# Altium footprint library VariuosCPOWER.PcbLib: 13 footprints
Each footprint in its own frame and in the unit in brackets; x right, y up, seen from the top. Pads: shape width x height; smd on the part's side, far side on the other; paste and mask are expansions set on the pad; w line width, h text height; cw(c..) or ccw(c..) is an arc to the next point about the centre after c.
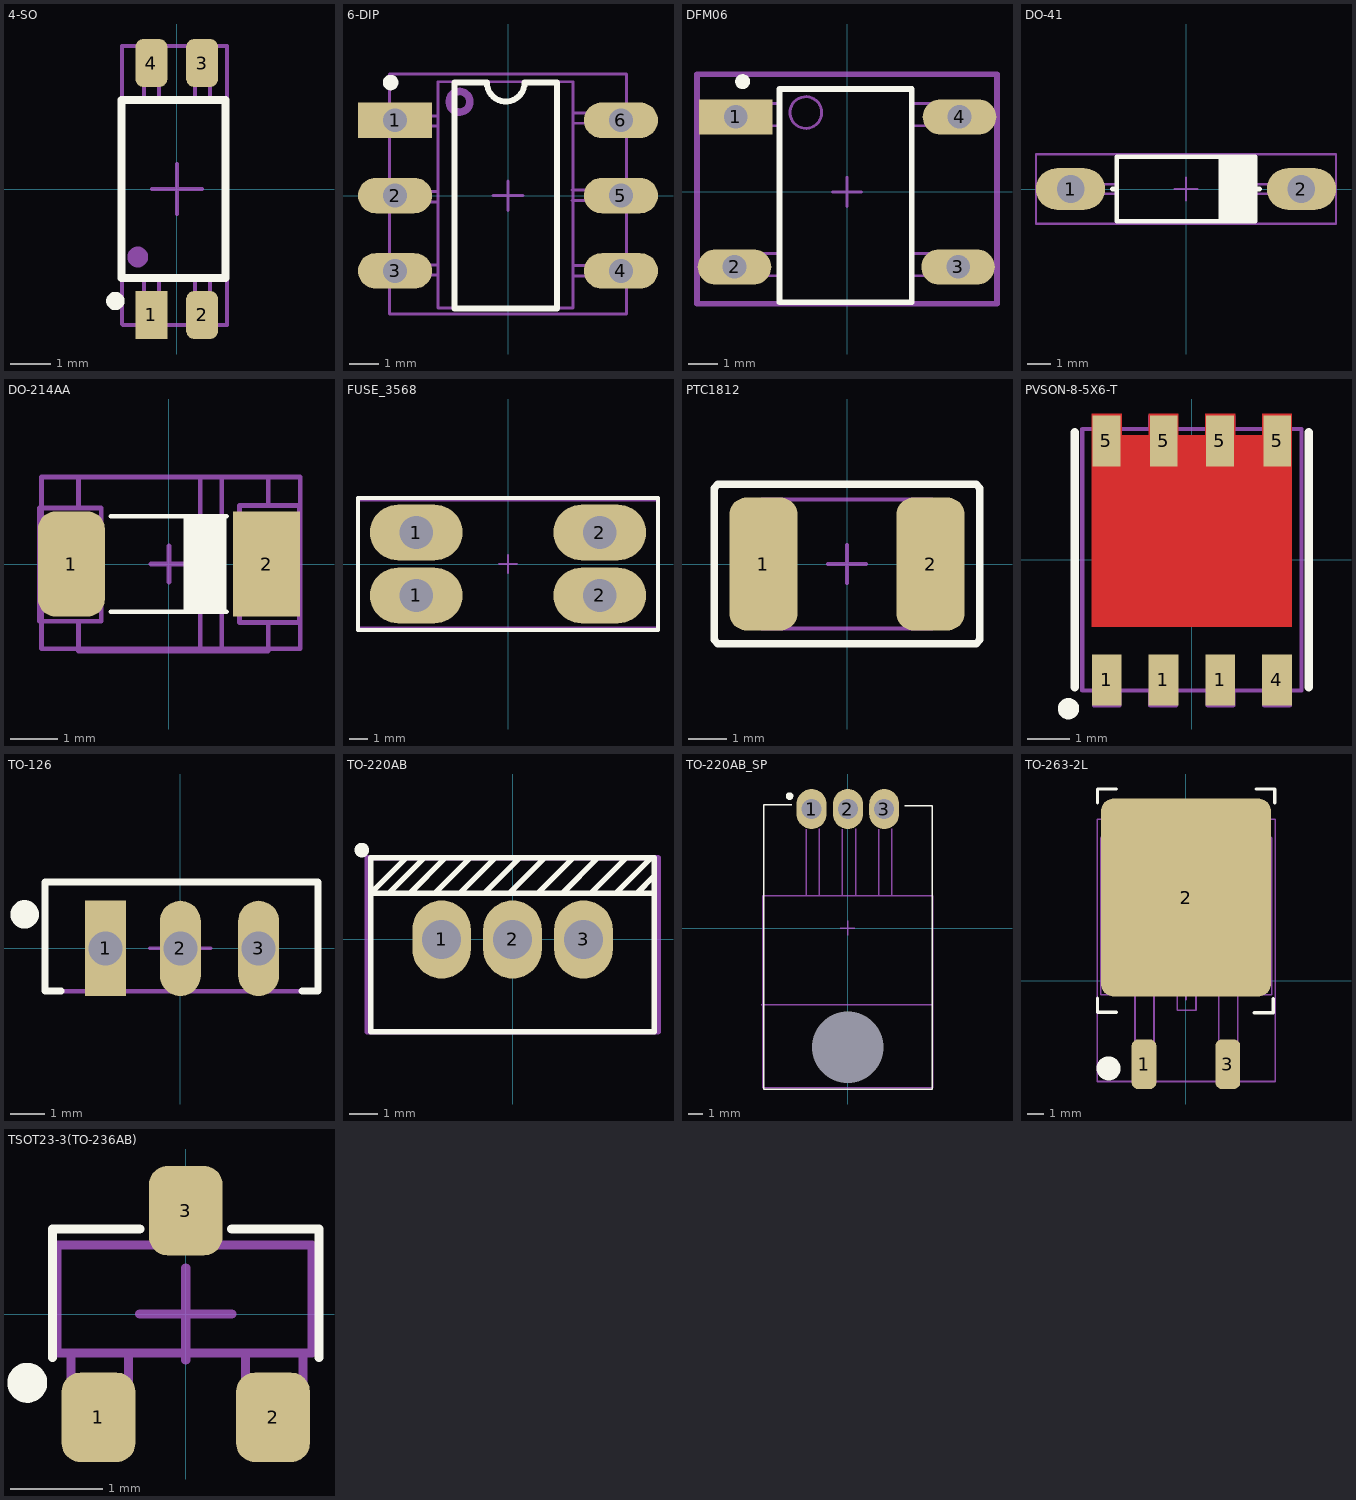
[diagram p0: the footprints below, top view; thin cyan lines are the x and y axes]

## 4-SO [mm] "0.179\", 4.55mm Width"
pads (4):
  rect 0.8x1.2 smd: 1(-0.635,-3.15)
  rrect50% 0.8x1.2 smd: 2(0.635,-3.15) 3(0.635,3.15) 4(-0.635,3.15)
Top Overlay:
  circle w0.254: c-1.535,-2.8 r0.103
  lines w0.2: -1.385,-2.225 -1.385,2.225 1.215,2.225 1.215,-2.225 -1.385,-2.225
TopAssy:
  circle w0.254: c-0.975,-1.7 r0.135
  lines w0.1: -0.825,-2.225 -0.825,-3.35 -0.45,-3.35 -0.45,-2.225 ; -0.825,2.225 -0.825,3.35 -0.45,3.35 -0.45,2.225 ; 0.45,-2.225 0.45,-3.35 0.825,-3.35 0.825,-2.225 ; 0.45,2.225 0.45,3.35 0.825,3.35 0.825,2.225 ; -1.375,-2.225 -1.375,2.225 1.25,2.225 1.25,-2.225 -1.375,-2.225
Inside:
  lines w0.1: -0.625,0 0,0 ; 0,-0.625 0,0 ; 0,0.625 0,0 ; 0.625,0 0,0 ; -1.375,-3.375 -1.375,3.575 1.25,3.575 1.25,-2.95 1.25,-3.4 -1.35,-3.4 -1.375,-3.375
3D body "User Library-ACPL-217-56DE.step": height 2.01, standoff -0.12, extent -1.36,-3.4 1.24,3.6

## 6-DIP [mm]
pads (6):
  rect 2.5x1.2 hole 0.8: 1(-3.81,2.54)
  oval 2.5x1.2 hole 0.8: 2(-3.81,0) 3(-3.81,-2.54) 4(3.81,-2.54) 5(3.81,0) 6(3.81,2.54)
Top Overlay:
  circle w0.254: c-3.96,3.815 r0.135
  lines w0.2: -1.8,-3.81 -1.8,3.81 -0.71,3.81 ccw(c-0.075,3.81) 0.56,3.81 1.65,3.81 1.65,-3.81 -1.8,-3.81
TopAssy:
  circle w0.254: c-1.635,3.165 r0.348
  lines w0.1: -3.56,-2.36 -3.56,-2.66 -3.56,-2.685 -2.36,-2.685 ; -3.56,0.115 -3.56,-0.185 -3.56,-0.21 -2.36,-0.21 ; -3.56,2.665 -3.56,2.365 -3.56,2.34 -2.36,2.34 ; -3.535,-2.335 -2.36,-2.335 ; -3.535,0.14 -2.36,0.14 ; -3.535,2.69 -2.36,2.69 ; 2.165,-0.16 3.365,-0.16 3.365,-0.135 3.365,0.165 ; 2.165,0.19 3.34,0.19 ; 2.215,-2.71 3.415,-2.71 3.415,-2.685 3.415,-2.385 ; 2.215,-2.36 3.39,-2.36 ; 2.215,2.44 3.415,2.44 3.415,2.465 3.415,2.765 ; 2.215,2.79 3.39,2.79 ; -2.36,-3.785 0.09,-3.785 2.19,-3.785 2.19,3.84 2.14,3.84 -0.085,3.84 -2.31,3.84 -2.36,3.84 -2.36,-3.785
Inside:
  lines w0.1: -0.5,0 0.5,0 ; 0,-0.5 0,0.5 ; -4,-4 -4,4.1 4,4.1 4,-4 -4,-4
3D body "CircuitWorks-DIP6.step": height 4.81, standoff -2.78, extent -4,-4.04 4,4.04

## DFM06 [mm] "8.51 mmx6.5mmx3.3mm"
height 3.3
pads (4):
  rect 2.5x1.2 hole 0.8: 1(-3.775,2.55)
  oval 2.5x1.2 hole 0.8: 2(-3.825,-2.55) 3(3.775,-2.55) 4(3.825,2.55)
Top Overlay:
  circle w0.254: c-3.55,3.75 r0.125
  lines w0.2: -2.3,-3.75 2.2,-3.75 2.2,3.5 -2.3,3.5 -2.3,-3.75
TopAssy:
  circle w0.1: c4,2.6 r0.4
  circle w0.1: c4.1,-2.5 r0.4
  circle w0.1: c-4,-2.5 r0.4
  circle w0.1: c-4,2.6 r0.4
  circle w0.1: c-1.4,2.7 r0.539
  lines w0.1: -2.3,-2.85 -4.05,-2.85 -4.05,-2.1 -2.3,-2.1 ; -2.3,2.25 -4.05,2.25 -4.05,3 -2.3,3 ; 2.2,2.25 3.95,2.25 3.95,3 2.2,3 ; 2.3,-2.85 4.05,-2.85 4.05,-2.1 2.3,-2.1 ; -2.3,-3.75 2.2,-3.75 2.2,3.5 -2.3,3.5 -2.3,-3.75
Inside:
  lines w0.1: -0.5,0 0.5,0 ; 0,-0.5 0,0.5
  lines w0.2: -5.1,-3.8 5.1,-3.8 5.1,4 -5.1,4 -5.1,-3.8
3D body "User Library-DIP-4 300mil Black.step": height 4, standoff -2.5, extent -3.965,-3.8 4.018,3.9

## DO-41 [mm]
pads (2):
  oval 3x1.8 hole 1.2: 1(-5,0) 2(5,0)
Top Overlay:
  rectangle: 1.4,-1.4 3,1.4
  lines w0.2: -3.2,0 -3,0 ; 3,0 3.2,0 ; -3,-1.4 -3,1.4 3,1.4 3,-1.4 -3,-1.4
TopAssy:
  circle w0.1: c5,0 r0.412
  circle w0.1: c-5,0 r0.412
  lines w0.1: -4.6,-0.2 -3,-0.2 ; -4.6,0.2 -3,0.2 ; 2.3,-1.5 2.3,1.4 ; 2.7,-1.5 2.7,1.4 ; 3,-0.2 4.6,-0.2 ; 3,0.2 4.6,0.2 ; -3,-1.5 3,-1.5 3,1.4 -3,1.4 -3,-1.5
Inside:
  lines w0.1: -0.5,0 0.5,0 ; 0,-0.5 0,0.5 ; -6.5,-1.5 -6.5,1.5 6.5,1.5 6.5,-1.5 -6.5,-1.5
3D body "User Library-DO-41 10mm.step": height 3.36, standoff -2, extent -5.43,-1.362 5.43,1.363

## DO-214AA [mm] "SMB / DO-214AA"
pads (2):
  rrect50% 1.4x2.2 smd: 1(-2.045,0)
  rect 1.4x2.2 smd: 2(2.045,0)
Top Overlay:
  rectangle: 0.305,-1 1.205,1
  lines w0.1: -1.22,-1 1.205,-1 ; -1.22,1 1.205,1
TopAssy:
  lines w0.1: -1.895,-1.2 -1.895,-1.825 2.08,-1.825 2.08,-1.225 ; -1.895,1.2 -1.895,1.825 2.08,1.825 2.08,1.225 ; 0.655,-1.825 0.655,1.825 0.705,1.825 ; 1.105,-1.825 1.105,1.825 1.13,1.825 ; 2.08,1.225 1.48,1.225 1.48,-1.225 2.73,-1.225 2.73,1.225 2.08,1.225 ; -2.72,-1.2 -1.42,-1.2 -1.42,1.175 -1.895,1.175 -2.72,1.175 -2.72,-1.2
Inside:
  lines w0.1: -0.375,0 0,0 ; 0,-0.375 0,0 ; 0,0.375 0,0 ; 0.375,0 0,0 ; -2.675,-1.775 2.75,-1.775 2.75,1.825 -2.675,1.825 -2.675,-1.775
3D body "User Library-DO-214AA SMB.step": height 2.3, standoff 0, extent -2.67,-1.775 2.73,1.825

## FUSE_3568 [mm] "Fuse 3568 (16x6.73x7.37)"
height 7.37
pads (4):
  oval 5x3 hole 1.8: 1(-4.955,-1.7) 1(-4.955,1.7) 2(4.955,-1.7) 2(4.955,1.7)
Top Overlay:
  lines w0.2: -8.1,-3.565 8.1,-3.565 8.1,3.565 -8.1,3.565 -8.1,-3.565
TopAssy:
  lines w0.1: -8.05,-3.425 -8.05,3.425 8.075,3.425 8.075,-3.425 -8.05,-3.425
Inside:
  lines w0.1: -0.5,0 0.5,0 ; 0,-0.5 0,0.5
3D body "3568.STEP": height 7.37, standoff -2.79, extent -8,-3.365 8,3.365

## PTC1812 [mm] "PTC RESTTBLE  1812 (4532 Metric (4.55mm x 3.24mm)"
height 1.1
pads (2):
  rrect50% 1.8x3.5 smd: 1(-2.2,0) 2(2.2,0)
Top Overlay:
  lines w0.2: -3.5,-2 -3.4,-2.1 3.4,-2.1 3.5,-2 3.5,2 3.4,2.1 -3.4,2.1 -3.5,2 -3.5,-2
TopAssy:
  lines w0.1: -1.75,-1.6 -1.75,1.6 ; 1.75,-1.6 1.75,1.6 ; -2.25,-1.7 2.25,-1.7 2.25,1.7 -2.25,1.7 -2.25,-1.7
Inside:
  lines w0.1: -0.5,0 0.5,0 ; 0,-0.5 0,0.5
3D body "polyswitch 1812.STEP": height 1.1, standoff 0, extent -2.34,-1.705 2.39,1.705

## PVSON-8-5X6-T [mm] "TDSON, 8-Leads, Body 6x5mm, Pitch 1.27mm"
height 1
pads (8):
  rect 0.7x1.2 smd: 1(-2,-2.825) 1(-0.667,-2.825) 1(0.667,-2.825) 4(2,-2.825)
  rect 0.65x1.2 smd: 5(-2.007,2.794) 5(-0.66,2.794) 5(0.66,2.794) 5(2.007,2.794)
Top Layer:
  region: 0.315,2.925 1.015,2.925 1.015,3.425 0.315,3.425
  region: -1.015,2.925 -0.315,2.925 -0.315,3.425 -1.015,3.425
  region: 1.65,2.925 2.35,2.925 2.35,3.425 1.65,3.425
  region: -2.35,2.925 -1.65,2.925 -1.65,3.425 -2.35,3.425
  region: -2.35,2.925 -2.35,-1.575 2.35,-1.575 2.35,2.925
Top Overlay:
  circle w0.25: c-2.9,-3.5 r0.125
  lines w0.2: -2.75,-3 -2.75,3 ; 2.75,-3 2.75,3
TopAssy:
  lines w0.1: -2.3,-3.125 -2.3,-3.425 -1.7,-3.425 -1.7,-3.125 ; -2.3,-1.125 -2.3,-1.525 -1.9,-1.525 ; -2.3,-0.825 -2.3,-0.525 ; -2.3,-0.225 -2.3,0.075 ; -2.3,0.375 -2.3,0.675 ; -2.3,0.975 -2.3,1.275 ; -2.3,1.575 -2.3,1.875 ; -2.3,2.175 -2.3,2.475 ; -2.3,2.775 -2.3,3.075 -2.3,3.375 -1.7,3.375 -1.7,3.075 ; -1.375,-1.525 -1.075,-1.525 ; -0.975,-3.125 -0.975,-3.425 -0.375,-3.425 -0.375,-3.125 ; -0.975,3.075 -0.975,3.375 -0.375,3.375 -0.375,3.075 ; -0.775,-1.525 -0.475,-1.525 ; -0.175,-1.525 0.125,-1.525 ; 0.375,-3.125 0.375,-3.425 0.975,-3.425 0.975,-3.125 ; 0.375,3.075 0.375,3.375 0.975,3.375 0.975,3.075 ; 0.425,-1.525 0.725,-1.525 ; 1.025,-1.525 1.325,-1.525 ; 1.7,-3.125 1.7,-3.425 2.3,-3.425 2.3,-3.125 ; 1.7,3.075 1.7,3.375 2.3,3.375 2.3,3.075 2.3,2.775 ; 1.9,-1.525 2.3,-1.525 2.3,-1.125 ; 2.3,-0.825 2.3,-0.525 ; 2.3,-0.225 2.3,0.075 ; 2.3,0.375 2.3,0.675 ; 2.3,0.975 2.3,1.275 ; 2.3,1.575 2.3,1.875 ; 2.3,2.175 2.3,2.475 ; -2.575,-3.075 2.575,-3.075 2.575,3.075 -2.575,3.075 -2.575,-3.075
Inside:
  lines w0.1: -0.5,0 0.5,0 ; 0,-0.5 0,0.5
3D body "User Library-TDSON-8.STEP": height 1.1, standoff -0.01, extent -2.575,-3.175 2.575,3.175

## TO-126 [mm]
pads (3):
  rect 1.2x2.8 hole 1: 1(-2.2,0)
  oval 1.2x2.8 hole 1: 2(0,0) 3(2.3,0)
Top Overlay:
  circle w0.5: c-4.575,1 r0.168
  lines w0.2: -3.5,-1.25 -3.975,-1.25 -3.975,1.95 4.05,1.95 4.05,-1.25 3.575,-1.25
TopAssy:
  circle w0.1: c0,0 r0.451
  circle w0.1: c2.3,0 r0.502
  circle w0.1: c-2.2,0 r0.5
  lines w0.1: -3.975,1.95 4.025,1.95 4.025,-1.275 -3.95,-1.275 -3.95,1.95
Inside:
  lines w0.1: -0.9,0 0,0 ; 0,-0.9 0,0 ; 0,0.9 0,0 ; 0.9,0 0,0 ; -3.975,-1.25 -3.975,1.95 4.075,1.95 4.075,-1.25 -3.975,-1.25
3D body "ALSRobot-TO-126.STEP": height 15.94, standoff -11.86, extent -3.95,-1.275 4.05,1.975

## TO-220AB [mm] "3.1mmx3.1mmx1mm"
height 1
pads (3):
  oval 2.1x2.8 hole 1.4: 1(-2.54,0) 2(0,0) 3(2.54,0)
Top Overlay:
  circle w0.254: c-5.4,3.2 r0.135
  lines w0.2: -4.445,1.651 -3.175,2.921 ; -3.81,2.921 -5.08,1.651 5.08,1.651 ; -3.683,1.651 -2.413,2.921 ; -2.794,1.651 -1.524,2.921 ; -1.905,1.651 -0.635,2.921 ; -1.016,1.651 0.254,2.921 ; -0.127,1.651 1.143,2.921 ; 0.889,1.651 2.159,2.921 ; 1.778,1.651 3.048,2.921 ; 2.794,1.651 4.064,2.921 ; 3.683,1.651 4.953,2.921 ; 4.445,1.651 5.08,2.286 ; -5.08,-3.302 -5.08,2.921 5.08,2.921 5.08,-3.302 -5.08,-3.302
TopAssy:
  lines w0.2: -5.207,-3.302 5.207,-3.302 5.207,2.921 -5.207,2.921 -5.207,-3.302
3D body "User Library-Transistors TO-220AB.STEP": height 22.36, standoff -10.52, extent -5.08,-1.59 5.08,2.606

## TO-220AB_SP [mm]
pads (4):
  oval 2.1x2.8 hole 1.4: 1(-2.54,8.325) 2(0,8.325) 3(2.54,8.325)
  round 0 hole 5: -(0,-8.325)
Top Overlay:
  lines w0.1: -3.925,8.625 -5.9,8.625 -5.9,-11.25 5.9,-11.25 5.9,8.55 3.975,8.55
  lines w0.254: -3.965,9.137 cw(c-4.075,9.225) -3.934,9.225
TopAssy:
  lines w0.1: -6.05,-5.375 5.925,-5.375 5.925,-5.4 ; -2.925,2.25 -2.925,6.925 ; -2,2.275 -2,6.95 ; -0.385,2.25 -0.385,6.925 ; 0.54,2.275 0.54,6.95 ; 2.155,2.25 2.155,6.925 ; 3.08,2.275 3.08,6.95 ; -5.95,-11.15 -5.95,2.25 5.925,2.25 5.925,-11.15 -5.95,-11.15
  lines w0.254: 1.618,-8.235 ccw(c0.02,-8.325) 1.62,-8.325
Inside:
  lines w0.1: -0.525,0 0.475,0 ; -0.025,-0.5 -0.025,0.5
3D body "TO-220-3 Bend Mirror.stp": height 4.41, standoff -3, extent -5.942,-11.269 5.942,8.575

## TO-263-2L [mm] "10mm x  13.4mm x4.5mm"
height 4.5
pads (3):
  rrect50% 1.5x3 smd: 1(-2.537,-5.05) 3(2.538,-5.05)
  rrect15% 10.3x12 smd: 2(0.003,5.05)
Top Overlay:
  circle w1: c-4.687,-5.3 r0.226
  lines w0.2: -5.362,-1.05 -5.362,-1.9 -4.212,-1.9 ; -5.362,10.775 -5.362,11.625 -4.212,11.625 ; 4.138,-1.925 5.288,-1.925 5.288,-1.075 ; 4.238,11.625 5.388,11.625 5.388,10.775
TopAssy:
  lines w0.1: -5.149,8.666 -4.487,9.675 2.613,9.675 4.513,9.675 5.174,8.666 ; -2.937,-0.85 -3.087,-0.85 -3.087,-6.25 -1.937,-6.25 -1.937,-0.85 ; -0.537,-0.9 -0.537,-1.775 0.613,-1.775 0.613,-0.9 ; 1.988,-0.85 1.988,-6.25 3.137,-6.25 3.137,-0.85 ; -5.162,-0.85 -5.162,8.675 5.188,8.675 5.188,-0.85 -5.162,-0.85
Inside:
  lines w0.1: -1.125,0 0,0 ; 0,-1.125 0,0 ; 0,1.125 0,0 ; 1.125,0 0,0 ; -5.375,-6.1 5.4,-6.1 5.4,9.8 -5.35,9.8 -5.375,9.8 -5.375,-6.1
3D body "TO-263AB.stp": height 4.8, standoff 0, extent -5.312,-6.075 5.33,9.775

## TSOT23-3(TO-236AB) [mm]
pads (3):
  rrect50% 0.802x0.972 smd: 1(-0.95,-1.124) 2(0.95,-1.124) 3(0,1.124)
Top Overlay:
  circle w0.254: c-1.725,-0.749 r0.09
  lines w0.1: -1.45,-0.474 -1.45,0.926 ; -1.425,0.926 -0.5,0.926 ; 0.5,0.926 1.425,0.926 ; 1.45,-0.474 1.45,0.926
TopAssy:
  lines w0.1: -1.25,-0.424 -1.25,-1.324 -0.625,-1.324 -0.625,-0.474 ; 0.65,-0.474 0.65,-1.374 1.275,-1.374 1.275,-0.424 ; -0.325,0.751 -1.4,0.751 -1.4,-0.424 1.375,-0.424 1.375,0.751 0.3,0.751 ; -0.325,0.751 -0.325,1.376 0.3,1.376 0.3,0.751 ; -0.325,0.751 0.3,0.751
Inside:
  lines w0.1: -0.5,0 0.5,0 ; 0,-0.5 0,0.5
3D body "User Library-SOT-23-3-2.step": height 1.2, standoff 0, extent -1.45,-1.424 1.45,1.376